# EAGLE library part MAX4427 (library satellite)
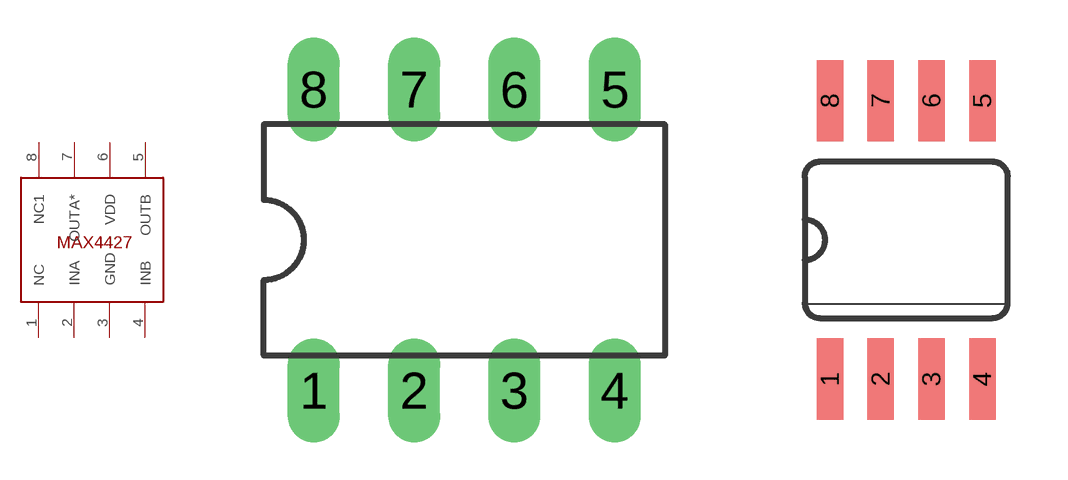
[diagram p13: symbol with the pads of DIL08; footprints DIL08, SO08]

Designator prefix -

## MAX4427DIP  [DIL08]
1  NC
2  INA
3  GND
4  INB
5  OUTB
6  VDD
7  OUTA*
8  NC1

## MAX4427SO  [SO08]
Pads as for DIL08

## Footprint DIL08 (pad centres in mm)
Dual In Line Package
drill 0.813 long: 1 -3.81,-3.81; 2 -1.27,-3.81; 3 1.27,-3.81; 4 3.81,-3.81; 5 3.81,3.81; 6 1.27,3.81; 7 -1.27,3.81; 8 -3.81,3.81

## Footprint SO08 (pad centres in mm)
Small Outline Package SOIC 150 mil
smd 0.66 x 2.032: 1 -1.905,-3.48; 2 -0.635,-3.48; 3 0.635,-3.48; 4 1.905,-3.48; 5 1.905,3.48; 6 0.635,3.48; 7 -0.635,3.48; 8 -1.905,3.48